# EAGLE library part CD4011BPWR (library Power Board Custom)
IC GATE NAND 4CH 2-INP 14TSSOP
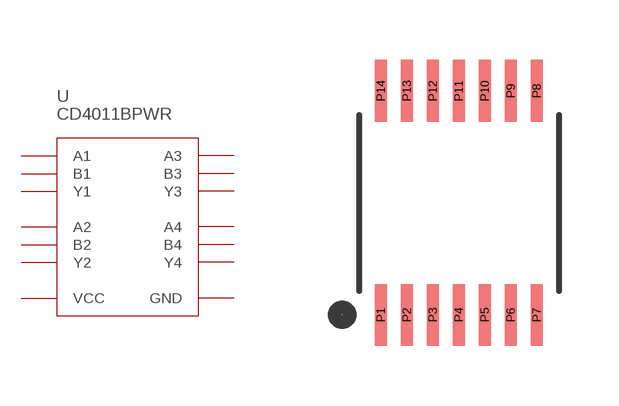
[diagram p4: symbol with the pads of 14-TSSOP; footprint 14-TSSOP]

Designator prefix U

## CD4011BPWR  [14-TSSOP]
P1  A1
P2  B1
P3  Y1
P4  Y2
P5  A2
P6  B2
P7  GND  pwr
P8  A3
P9  B3
P10  Y3
P11  Y4
P12  A4
P13  B4
P14  VCC  pwr

## Footprint 14-TSSOP (pad centres in mm)
smd 0.3 x 1.55: P1 -1.95,-2.8; P2 -1.3,-2.8; P3 -0.65,-2.8; P4 0,-2.8; P5 0.65,-2.8; P6 1.3,-2.8; P7 1.95,-2.8; P8 1.95,2.8; P9 1.3,2.8; P10 0.65,2.8; P11 0,2.8; P12 -0.65,2.8; P13 -1.3,2.8; P14 -1.95,2.8